# EAGLE library part KF33BD_3V3_LDO (library 000_ICS)
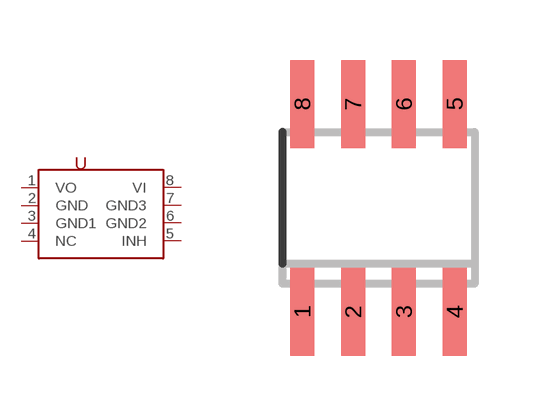
[diagram p5: symbol with the pads of SO-08; footprint SO-08]

Designator prefix -

## KF33BD_3V3_LDO (1PC: 0.96; CURRENT: 0.5A; DIGIKEY: 497-7757-1-ND; HEIGHT: 1.75)  [SO-08]
1  VO
2  GND
3  GND1
4  NC
5  INH
6  GND2
7  GND3
8  VI

## Footprint SO-08 (pad centres in mm)
Small Outline Narrow Plastic Gull Wing 150-mil body, package type SN
smd 0.6 x 2.2: 1 -1.905,-2.6; 2 -0.635,-2.6; 3 0.635,-2.6; 4 1.905,-2.6; 5 1.905,2.6; 6 0.635,2.6; 7 -0.635,2.6; 8 -1.905,2.6